# EAGLE library part CRTOUCH (library GTA04b7)
Freescale CRTouch touch controller
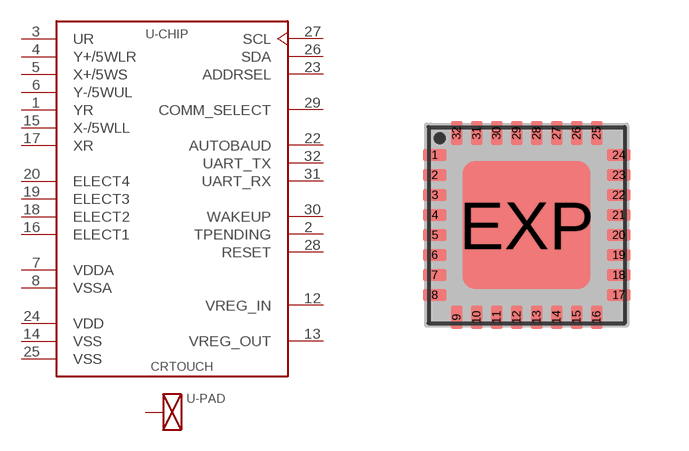
[diagram p12: symbol with the pads of QFN-32+E-0.5; footprint QFN-32+E-0.5]

Designator prefix -; gates -CHIP=TOUCH-CONTROLLER-CRTOUCH -PAD=SHIELD

## CRTOUCH  [QFN-32+E-0.5]
1  -CHIP:YR  pas
2  -CHIP:TPENDING  out
3  -CHIP:UR  pas
4  -CHIP:Y+/5WLR  pas
5  -CHIP:X+/5WS  pas
6  -CHIP:Y-/5WUL  pas
7  -CHIP:VDDA  pwr
8  -CHIP:VSSA  pwr
12  -CHIP:VREG_IN  pwr
13  -CHIP:VREG_OUT  pwr
14  -CHIP:VSS  pwr
15  -CHIP:X-/5WLL  pas
16  -CHIP:ELECT1  pas
17  -CHIP:XR  pas
18  -CHIP:ELECT2  pas
19  -CHIP:ELECT3  pas
20  -CHIP:ELECT4  pas
22  -CHIP:AUTOBAUD  in
23  -CHIP:ADDRSEL  in
24  -CHIP:VDD  pwr
25  -CHIP:VSS  pwr
26  -CHIP:SDA  oc
27  -CHIP:SCL  in
28  -CHIP:RESET  in
29  -CHIP:COMM_SELECT  in
30  -CHIP:WAKEUP  in
31  -CHIP:UART_RX  in
32  -CHIP:UART_TX  out
EXP  -PAD:SHIELD  pwr

## Footprint QFN-32+E-0.5 (pad centres in mm)
QFN 32-0.5mm Source: http://www.ftdichip.com/Documents/DataSheets/DS_FT232R_v104.pdf
smd 0.6 x 0.3: 1 -2.3,1.75; 2 -2.3,1.25; 3 -2.3,0.75; 4 -2.3,0.25; 5 -2.3,-0.25; 6 -2.3,-0.75; 7 -2.3,-1.25; 8 -2.3,-1.75; 17 2.3,-1.75; 18 2.3,-1.25; 19 2.3,-0.75; 20 2.3,-0.25; 21 2.3,0.25; 22 2.3,0.75; 23 2.3,1.25; 24 2.3,1.75
smd 0.3 x 0.6: 9 -1.75,-2.3; 10 -1.25,-2.3; 11 -0.75,-2.3; 12 -0.25,-2.3; 13 0.25,-2.3; 14 0.75,-2.3; 15 1.25,-2.3; 16 1.75,-2.3; 25 1.75,2.3; 26 1.25,2.3; 27 0.75,2.3; 28 0.25,2.3; 29 -0.25,2.3; 30 -0.75,2.3; 31 -1.25,2.3; 32 -1.75,2.3
smd 3.2 x 3.2: EXP 0,0